# EAGLE library part HD107S_2020 (library HD107S)
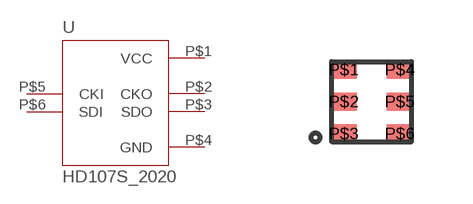
[diagram p0: symbol with the pads of HD107S_2020_FOOTPRINT; footprint HD107S_2020_FOOTPRINT]

Designator prefix -

## HD107S_2020  [HD107S_2020_FOOTPRINT]
P$1  VCC
P$2  CKO
P$3  SDO
P$4  GND
P$5  CKI
P$6  SDI

## Footprint HD107S_2020_FOOTPRINT (pad centres in mm)
smd 0.65 x 0.45: P$1 0.3,1.8; P$2 0.3,1; P$3 0.3,0.2; P$4 1.7,1.8; P$5 1.7,1; P$6 1.7,0.2